# Altium footprint library Connector_FFC-FPC.PcbLib: 372 footprints (part 3 of 24)
Each footprint in its own frame and in the unit in brackets; x right, y up, seen from the top. Pads: shape width x height; smd on the part's side, far side on the other; paste and mask are expansions set on the pad; w line width, h text height; cw(c..) or ccw(c..) is an arc to the next point about the centre after c.
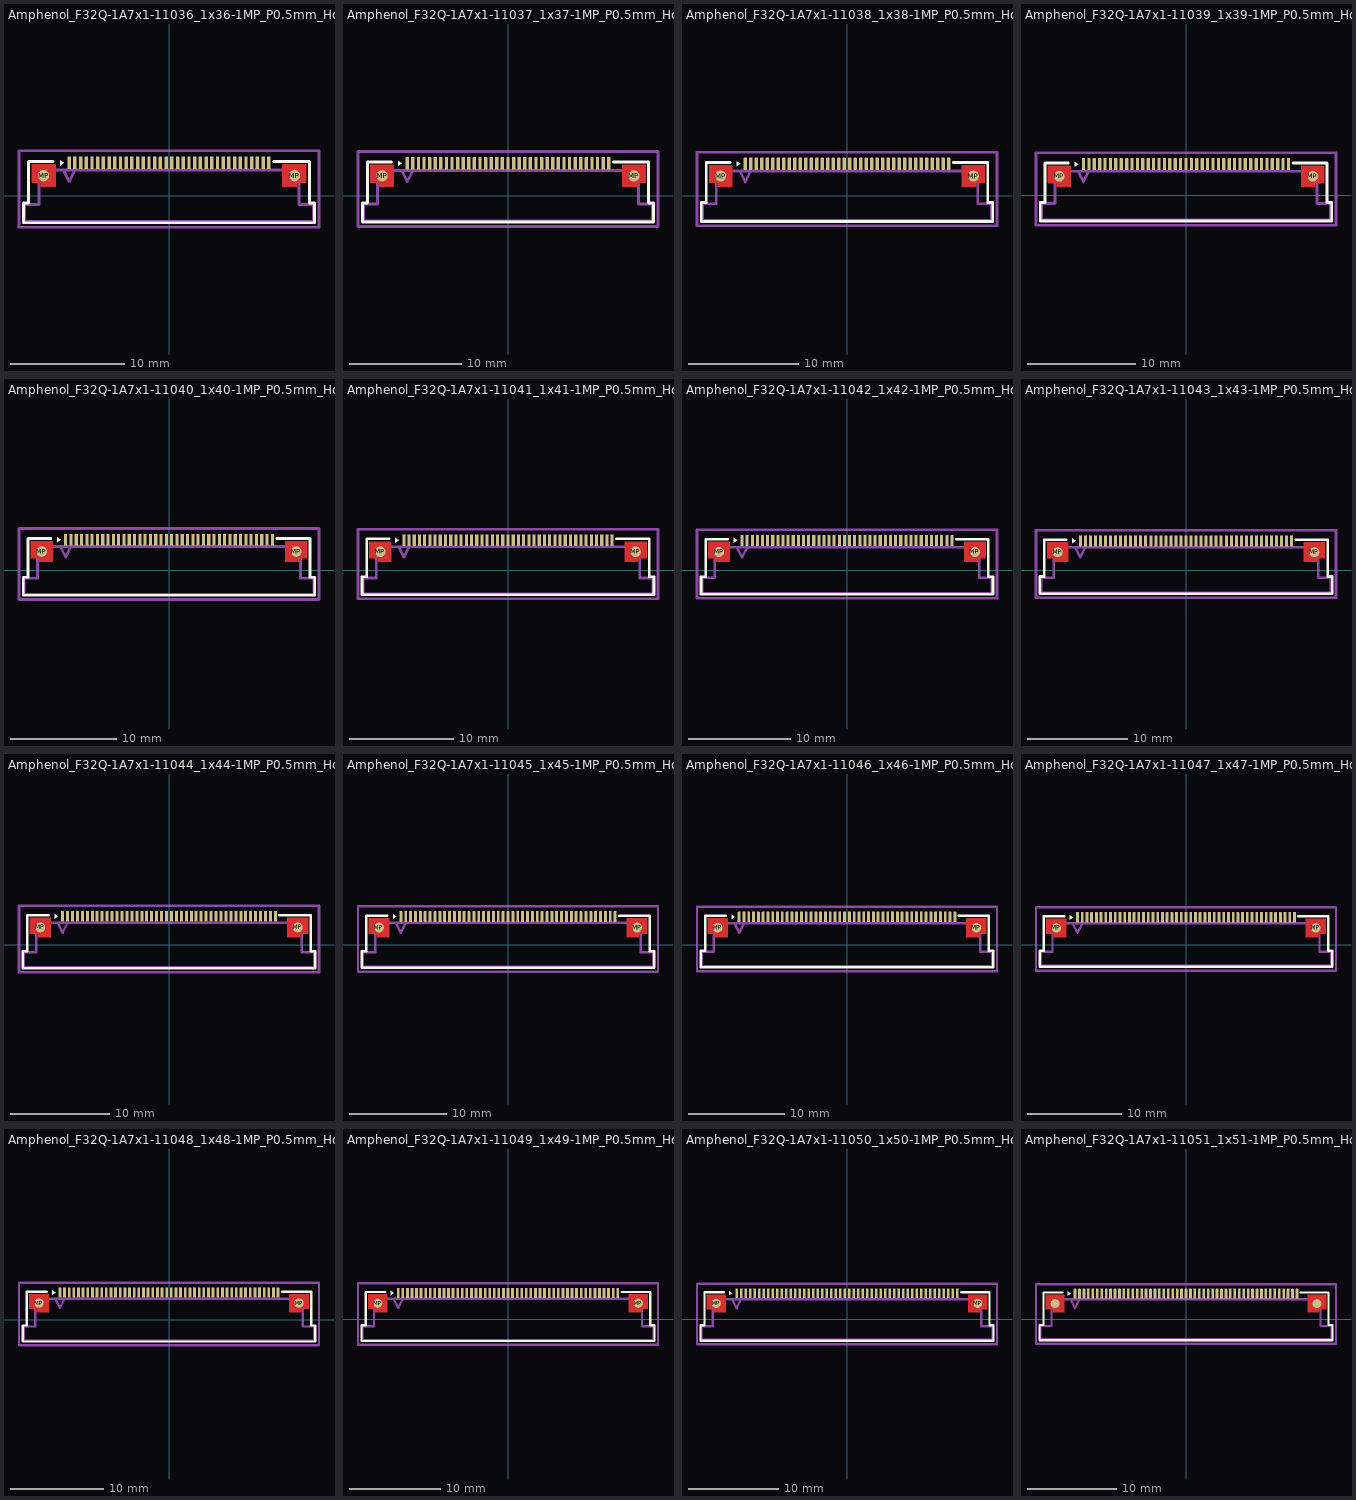
[diagram p2: the footprints below, top view; thin cyan lines are the x and y axes]

## Amphenol_F32Q-1A7x1-11036_1x36-1MP_P0.5mm_Horizontal [mm]
pads (38):
  rrect25% 0.3x1.1 smd: 1(-8.75,2.9) 2(-8.25,2.9) 3(-7.75,2.9) 4(-7.25,2.9) 5(-6.75,2.9) 6(-6.25,2.9) 7(-5.75,2.9) 8(-5.25,2.9) 9(-4.75,2.9) 10(-4.25,2.9) 11(-3.75,2.9) 12(-3.25,2.9) 13(-2.75,2.9) 14(-2.25,2.9) 15(-1.75,2.9) 16(-1.25,2.9) 17(-0.75,2.9) 18(-0.25,2.9) 19(0.25,2.9) 20(0.75,2.9) 21(1.25,2.9) 22(1.75,2.9) 23(2.25,2.9) 24(2.75,2.9) 25(3.25,2.9) 26(3.75,2.9) 27(4.25,2.9) 28(4.75,2.9) 29(5.25,2.9) 30(5.75,2.9) 31(6.25,2.9) 32(6.75,2.9) 33(7.25,2.9) 34(7.75,2.9) 35(8.25,2.9) 36(8.75,2.9)
  round 1 smd: MP(-11,1.775) MP(11,1.775)
F.Cu:
  region: 12.05,1.15 11.25,1.15 11.25,0.8 9.95,0.8 9.95,2.75 12.05,2.75
  region: -9.95,0.8 -11.25,0.8 -11.25,1.15 -12.05,1.15 -12.05,2.75 -9.95,2.75
F.SilkS:
  region: -9.22,2.9 -9.55,2.66 -9.55,3.14
  lines w0.254: -10.16,3.01 -12.31,3.01 -12.31,-0.64 -12.76,-0.64 -12.76,-2.36 12.76,-2.36 12.76,-0.64 12.31,-0.64 12.31,3.01 9.16,3.01
F.Paste:
  region: 12.05,1.15 11.25,1.15 11.25,0.8 9.95,0.8 9.95,2.75 12.05,2.75
  region: -9.95,0.8 -11.25,0.8 -11.25,1.15 -12.05,1.15 -12.05,2.75 -9.95,2.75
F.Mask:
  region: 12.05,1.15 11.25,1.15 11.25,0.8 9.95,0.8 9.95,2.75 12.05,2.75
  region: -9.95,0.8 -11.25,0.8 -11.25,1.15 -12.05,1.15 -12.05,2.75 -9.95,2.75
Top Assembly:
  lines w0.254: -9.25,2.25 -8.75,1.25 -8.25,2.25 ; -12.65,-2.25 12.65,-2.25 12.65,-0.75 11.4,-0.75 11.4,2.25 -11.4,2.25 -11.4,-0.75 -12.65,-0.75 -12.65,-2.25
  text "'.Designator'" at -4.047,-0.84 h1
Top Courtyard:
  lines w0.254: -13.15,-2.75 13.15,-2.75 13.15,3.95 -13.15,3.95 -13.15,-2.75
Top Designator:
  text ".Designator" at -7.618,0.092 h1.52

## Amphenol_F32Q-1A7x1-11037_1x37-1MP_P0.5mm_Horizontal [mm]
pads (39):
  rrect25% 0.3x1.1 smd: 1(-9,2.9) 2(-8.5,2.9) 3(-8,2.9) 4(-7.5,2.9) 5(-7,2.9) 6(-6.5,2.9) 7(-6,2.9) 8(-5.5,2.9) 9(-5,2.9) 10(-4.5,2.9) 11(-4,2.9) 12(-3.5,2.9) 13(-3,2.9) 14(-2.5,2.9) 15(-2,2.9) 16(-1.5,2.9) 17(-1,2.9) 18(-0.5,2.9) 19(0,2.9) 20(0.5,2.9) 21(1,2.9) 22(1.5,2.9) 23(2,2.9) 24(2.5,2.9) 25(3,2.9) 26(3.5,2.9) 27(4,2.9) 28(4.5,2.9) 29(5,2.9) 30(5.5,2.9) 31(6,2.9) 32(6.5,2.9) 33(7,2.9) 34(7.5,2.9) 35(8,2.9) 36(8.5,2.9) 37(9,2.9)
  round 1 smd: MP(-11.25,1.775) MP(11.25,1.775)
F.Cu:
  region: 12.3,1.15 11.5,1.15 11.5,0.8 10.2,0.8 10.2,2.75 12.3,2.75
  region: -10.2,0.8 -11.5,0.8 -11.5,1.15 -12.3,1.15 -12.3,2.75 -10.2,2.75
F.SilkS:
  region: -9.47,2.9 -9.8,2.66 -9.8,3.14
  lines w0.254: -10.41,3.01 -12.56,3.01 -12.56,-0.64 -13.01,-0.64 -13.01,-2.36 13.01,-2.36 13.01,-0.64 12.56,-0.64 12.56,3.01 9.41,3.01
F.Paste:
  region: 12.3,1.15 11.5,1.15 11.5,0.8 10.2,0.8 10.2,2.75 12.3,2.75
  region: -10.2,0.8 -11.5,0.8 -11.5,1.15 -12.3,1.15 -12.3,2.75 -10.2,2.75
F.Mask:
  region: 12.3,1.15 11.5,1.15 11.5,0.8 10.2,0.8 10.2,2.75 12.3,2.75
  region: -10.2,0.8 -11.5,0.8 -11.5,1.15 -12.3,1.15 -12.3,2.75 -10.2,2.75
Top Assembly:
  lines w0.254: -9.5,2.25 -9,1.25 -8.5,2.25 ; -12.9,-2.25 12.9,-2.25 12.9,-0.75 11.65,-0.75 11.65,2.25 -11.65,2.25 -11.65,-0.75 -12.9,-0.75 -12.9,-2.25
  text "'.Designator'" at -4.047,-0.84 h1
Top Courtyard:
  lines w0.254: -13.4,-2.75 13.4,-2.75 13.4,3.95 -13.4,3.95 -13.4,-2.75
Top Designator:
  text ".Designator" at -7.618,0.092 h1.52

## Amphenol_F32Q-1A7x1-11038_1x38-1MP_P0.5mm_Horizontal [mm]
pads (40):
  rrect25% 0.3x1.1 smd: 1(-9.25,2.9) 2(-8.75,2.9) 3(-8.25,2.9) 4(-7.75,2.9) 5(-7.25,2.9) 6(-6.75,2.9) 7(-6.25,2.9) 8(-5.75,2.9) 9(-5.25,2.9) 10(-4.75,2.9) 11(-4.25,2.9) 12(-3.75,2.9) 13(-3.25,2.9) 14(-2.75,2.9) 15(-2.25,2.9) 16(-1.75,2.9) 17(-1.25,2.9) 18(-0.75,2.9) 19(-0.25,2.9) 20(0.25,2.9) 21(0.75,2.9) 22(1.25,2.9) 23(1.75,2.9) 24(2.25,2.9) 25(2.75,2.9) 26(3.25,2.9) 27(3.75,2.9) 28(4.25,2.9) 29(4.75,2.9) 30(5.25,2.9) 31(5.75,2.9) 32(6.25,2.9) 33(6.75,2.9) 34(7.25,2.9) 35(7.75,2.9) 36(8.25,2.9) 37(8.75,2.9) 38(9.25,2.9)
  round 1 smd: MP(-11.5,1.775) MP(11.5,1.775)
F.Cu:
  region: 12.55,1.15 11.75,1.15 11.75,0.8 10.45,0.8 10.45,2.75 12.55,2.75
  region: -10.45,0.8 -11.75,0.8 -11.75,1.15 -12.55,1.15 -12.55,2.75 -10.45,2.75
F.SilkS:
  region: -9.72,2.9 -10.05,2.66 -10.05,3.14
  lines w0.254: -10.66,3.01 -12.81,3.01 -12.81,-0.64 -13.26,-0.64 -13.26,-2.36 13.26,-2.36 13.26,-0.64 12.81,-0.64 12.81,3.01 9.66,3.01
F.Paste:
  region: 12.55,1.15 11.75,1.15 11.75,0.8 10.45,0.8 10.45,2.75 12.55,2.75
  region: -10.45,0.8 -11.75,0.8 -11.75,1.15 -12.55,1.15 -12.55,2.75 -10.45,2.75
F.Mask:
  region: 12.55,1.15 11.75,1.15 11.75,0.8 10.45,0.8 10.45,2.75 12.55,2.75
  region: -10.45,0.8 -11.75,0.8 -11.75,1.15 -12.55,1.15 -12.55,2.75 -10.45,2.75
Top Assembly:
  lines w0.254: -9.75,2.25 -9.25,1.25 -8.75,2.25 ; -13.15,-2.25 13.15,-2.25 13.15,-0.75 11.9,-0.75 11.9,2.25 -11.9,2.25 -11.9,-0.75 -13.15,-0.75 -13.15,-2.25
  text "'.Designator'" at -4.047,-0.84 h1
Top Courtyard:
  lines w0.254: -13.65,-2.75 13.65,-2.75 13.65,3.95 -13.65,3.95 -13.65,-2.75
Top Designator:
  text ".Designator" at -7.618,0.092 h1.52

## Amphenol_F32Q-1A7x1-11039_1x39-1MP_P0.5mm_Horizontal [mm]
pads (41):
  rrect25% 0.3x1.1 smd: 1(-9.5,2.9) 2(-9,2.9) 3(-8.5,2.9) 4(-8,2.9) 5(-7.5,2.9) 6(-7,2.9) 7(-6.5,2.9) 8(-6,2.9) 9(-5.5,2.9) 10(-5,2.9) 11(-4.5,2.9) 12(-4,2.9) 13(-3.5,2.9) 14(-3,2.9) 15(-2.5,2.9) 16(-2,2.9) 17(-1.5,2.9) 18(-1,2.9) 19(-0.5,2.9) 20(0,2.9) 21(0.5,2.9) 22(1,2.9) 23(1.5,2.9) 24(2,2.9) 25(2.5,2.9) 26(3,2.9) 27(3.5,2.9) 28(4,2.9) 29(4.5,2.9) 30(5,2.9) 31(5.5,2.9) 32(6,2.9) 33(6.5,2.9) 34(7,2.9) 35(7.5,2.9) 36(8,2.9) 37(8.5,2.9) 38(9,2.9) 39(9.5,2.9)
  round 1 smd: MP(-11.75,1.775) MP(11.75,1.775)
F.Cu:
  region: 12.8,1.15 12,1.15 12,0.8 10.7,0.8 10.7,2.75 12.8,2.75
  region: -10.7,0.8 -12,0.8 -12,1.15 -12.8,1.15 -12.8,2.75 -10.7,2.75
F.SilkS:
  region: -9.97,2.9 -10.3,2.66 -10.3,3.14
  lines w0.254: -10.91,3.01 -13.06,3.01 -13.06,-0.64 -13.51,-0.64 -13.51,-2.36 13.51,-2.36 13.51,-0.64 13.06,-0.64 13.06,3.01 9.91,3.01
F.Paste:
  region: 12.8,1.15 12,1.15 12,0.8 10.7,0.8 10.7,2.75 12.8,2.75
  region: -10.7,0.8 -12,0.8 -12,1.15 -12.8,1.15 -12.8,2.75 -10.7,2.75
F.Mask:
  region: 12.8,1.15 12,1.15 12,0.8 10.7,0.8 10.7,2.75 12.8,2.75
  region: -10.7,0.8 -12,0.8 -12,1.15 -12.8,1.15 -12.8,2.75 -10.7,2.75
Top Assembly:
  lines w0.254: -10,2.25 -9.5,1.25 -9,2.25 ; -13.4,-2.25 13.4,-2.25 13.4,-0.75 12.15,-0.75 12.15,2.25 -12.15,2.25 -12.15,-0.75 -13.4,-0.75 -13.4,-2.25
  text "'.Designator'" at -4.047,-0.84 h1
Top Courtyard:
  lines w0.254: -13.9,-2.75 13.9,-2.75 13.9,3.95 -13.9,3.95 -13.9,-2.75
Top Designator:
  text ".Designator" at -7.618,0.092 h1.52

## Amphenol_F32Q-1A7x1-11040_1x40-1MP_P0.5mm_Horizontal [mm]
pads (42):
  rrect25% 0.3x1.1 smd: 1(-9.75,2.9) 2(-9.25,2.9) 3(-8.75,2.9) 4(-8.25,2.9) 5(-7.75,2.9) 6(-7.25,2.9) 7(-6.75,2.9) 8(-6.25,2.9) 9(-5.75,2.9) 10(-5.25,2.9) 11(-4.75,2.9) 12(-4.25,2.9) 13(-3.75,2.9) 14(-3.25,2.9) 15(-2.75,2.9) 16(-2.25,2.9) 17(-1.75,2.9) 18(-1.25,2.9) 19(-0.75,2.9) 20(-0.25,2.9) 21(0.25,2.9) 22(0.75,2.9) 23(1.25,2.9) 24(1.75,2.9) 25(2.25,2.9) 26(2.75,2.9) 27(3.25,2.9) 28(3.75,2.9) 29(4.25,2.9) 30(4.75,2.9) 31(5.25,2.9) 32(5.75,2.9) 33(6.25,2.9) 34(6.75,2.9) 35(7.25,2.9) 36(7.75,2.9) 37(8.25,2.9) 38(8.75,2.9) 39(9.25,2.9) 40(9.75,2.9)
  round 1 smd: MP(-12,1.775) MP(12,1.775)
F.Cu:
  region: 13.05,1.15 12.25,1.15 12.25,0.8 10.95,0.8 10.95,2.75 13.05,2.75
  region: -10.95,0.8 -12.25,0.8 -12.25,1.15 -13.05,1.15 -13.05,2.75 -10.95,2.75
F.SilkS:
  region: -10.22,2.9 -10.55,2.66 -10.55,3.14
  lines w0.254: -11.16,3.01 -13.31,3.01 -13.31,-0.64 -13.76,-0.64 -13.76,-2.36 13.76,-2.36 13.76,-0.64 13.31,-0.64 13.31,3.01 10.16,3.01
F.Paste:
  region: 13.05,1.15 12.25,1.15 12.25,0.8 10.95,0.8 10.95,2.75 13.05,2.75
  region: -10.95,0.8 -12.25,0.8 -12.25,1.15 -13.05,1.15 -13.05,2.75 -10.95,2.75
F.Mask:
  region: 13.05,1.15 12.25,1.15 12.25,0.8 10.95,0.8 10.95,2.75 13.05,2.75
  region: -10.95,0.8 -12.25,0.8 -12.25,1.15 -13.05,1.15 -13.05,2.75 -10.95,2.75
Top Assembly:
  lines w0.254: -10.25,2.25 -9.75,1.25 -9.25,2.25 ; -13.65,-2.25 13.65,-2.25 13.65,-0.75 12.4,-0.75 12.4,2.25 -12.4,2.25 -12.4,-0.75 -13.65,-0.75 -13.65,-2.25
  text "'.Designator'" at -4.047,-0.84 h1
Top Courtyard:
  lines w0.254: -14.15,-2.75 14.15,-2.75 14.15,3.95 -14.15,3.95 -14.15,-2.75
Top Designator:
  text ".Designator" at -7.618,0.092 h1.52

## Amphenol_F32Q-1A7x1-11041_1x41-1MP_P0.5mm_Horizontal [mm]
pads (43):
  rrect25% 0.3x1.1 smd: 1(-10,2.9) 2(-9.5,2.9) 3(-9,2.9) 4(-8.5,2.9) 5(-8,2.9) 6(-7.5,2.9) 7(-7,2.9) 8(-6.5,2.9) 9(-6,2.9) 10(-5.5,2.9) 11(-5,2.9) 12(-4.5,2.9) 13(-4,2.9) 14(-3.5,2.9) 15(-3,2.9) 16(-2.5,2.9) 17(-2,2.9) 18(-1.5,2.9) 19(-1,2.9) 20(-0.5,2.9) 21(0,2.9) 22(0.5,2.9) 23(1,2.9) 24(1.5,2.9) 25(2,2.9) 26(2.5,2.9) 27(3,2.9) 28(3.5,2.9) 29(4,2.9) 30(4.5,2.9) 31(5,2.9) 32(5.5,2.9) 33(6,2.9) 34(6.5,2.9) 35(7,2.9) 36(7.5,2.9) 37(8,2.9) 38(8.5,2.9) 39(9,2.9) 40(9.5,2.9) 41(10,2.9)
  round 1 smd: MP(-12.25,1.775) MP(12.25,1.775)
F.Cu:
  region: 13.3,1.15 12.5,1.15 12.5,0.8 11.2,0.8 11.2,2.75 13.3,2.75
  region: -11.2,0.8 -12.5,0.8 -12.5,1.15 -13.3,1.15 -13.3,2.75 -11.2,2.75
F.SilkS:
  region: -10.47,2.9 -10.8,2.66 -10.8,3.14
  lines w0.254: -11.41,3.01 -13.56,3.01 -13.56,-0.64 -14.01,-0.64 -14.01,-2.36 14.01,-2.36 14.01,-0.64 13.56,-0.64 13.56,3.01 10.41,3.01
F.Paste:
  region: 13.3,1.15 12.5,1.15 12.5,0.8 11.2,0.8 11.2,2.75 13.3,2.75
  region: -11.2,0.8 -12.5,0.8 -12.5,1.15 -13.3,1.15 -13.3,2.75 -11.2,2.75
F.Mask:
  region: 13.3,1.15 12.5,1.15 12.5,0.8 11.2,0.8 11.2,2.75 13.3,2.75
  region: -11.2,0.8 -12.5,0.8 -12.5,1.15 -13.3,1.15 -13.3,2.75 -11.2,2.75
Top Assembly:
  lines w0.254: -10.5,2.25 -10,1.25 -9.5,2.25 ; -13.9,-2.25 13.9,-2.25 13.9,-0.75 12.65,-0.75 12.65,2.25 -12.65,2.25 -12.65,-0.75 -13.9,-0.75 -13.9,-2.25
  text "'.Designator'" at -4.047,-0.84 h1
Top Courtyard:
  lines w0.254: -14.4,-2.75 14.4,-2.75 14.4,3.95 -14.4,3.95 -14.4,-2.75
Top Designator:
  text ".Designator" at -7.618,0.092 h1.52

## Amphenol_F32Q-1A7x1-11042_1x42-1MP_P0.5mm_Horizontal [mm]
pads (44):
  rrect25% 0.3x1.1 smd: 1(-10.25,2.9) 2(-9.75,2.9) 3(-9.25,2.9) 4(-8.75,2.9) 5(-8.25,2.9) 6(-7.75,2.9) 7(-7.25,2.9) 8(-6.75,2.9) 9(-6.25,2.9) 10(-5.75,2.9) 11(-5.25,2.9) 12(-4.75,2.9) 13(-4.25,2.9) 14(-3.75,2.9) 15(-3.25,2.9) 16(-2.75,2.9) 17(-2.25,2.9) 18(-1.75,2.9) 19(-1.25,2.9) 20(-0.75,2.9) 21(-0.25,2.9) 22(0.25,2.9) 23(0.75,2.9) 24(1.25,2.9) 25(1.75,2.9) 26(2.25,2.9) 27(2.75,2.9) 28(3.25,2.9) 29(3.75,2.9) 30(4.25,2.9) 31(4.75,2.9) 32(5.25,2.9) 33(5.75,2.9) 34(6.25,2.9) 35(6.75,2.9) 36(7.25,2.9) 37(7.75,2.9) 38(8.25,2.9) 39(8.75,2.9) 40(9.25,2.9) 41(9.75,2.9) 42(10.25,2.9)
  round 1 smd: MP(-12.5,1.775) MP(12.5,1.775)
F.Cu:
  region: 13.55,1.15 12.75,1.15 12.75,0.8 11.45,0.8 11.45,2.75 13.55,2.75
  region: -11.45,0.8 -12.75,0.8 -12.75,1.15 -13.55,1.15 -13.55,2.75 -11.45,2.75
F.SilkS:
  region: -10.72,2.9 -11.05,2.66 -11.05,3.14
  lines w0.254: -11.66,3.01 -13.81,3.01 -13.81,-0.64 -14.26,-0.64 -14.26,-2.36 14.26,-2.36 14.26,-0.64 13.81,-0.64 13.81,3.01 10.66,3.01
F.Paste:
  region: 13.55,1.15 12.75,1.15 12.75,0.8 11.45,0.8 11.45,2.75 13.55,2.75
  region: -11.45,0.8 -12.75,0.8 -12.75,1.15 -13.55,1.15 -13.55,2.75 -11.45,2.75
F.Mask:
  region: 13.55,1.15 12.75,1.15 12.75,0.8 11.45,0.8 11.45,2.75 13.55,2.75
  region: -11.45,0.8 -12.75,0.8 -12.75,1.15 -13.55,1.15 -13.55,2.75 -11.45,2.75
Top Assembly:
  lines w0.254: -10.75,2.25 -10.25,1.25 -9.75,2.25 ; -14.15,-2.25 14.15,-2.25 14.15,-0.75 12.9,-0.75 12.9,2.25 -12.9,2.25 -12.9,-0.75 -14.15,-0.75 -14.15,-2.25
  text "'.Designator'" at -4.047,-0.84 h1
Top Courtyard:
  lines w0.254: -14.65,-2.75 14.65,-2.75 14.65,3.95 -14.65,3.95 -14.65,-2.75
Top Designator:
  text ".Designator" at -7.618,0.092 h1.52

## Amphenol_F32Q-1A7x1-11043_1x43-1MP_P0.5mm_Horizontal [mm]
pads (45):
  rrect25% 0.3x1.1 smd: 1(-10.5,2.9) 2(-10,2.9) 3(-9.5,2.9) 4(-9,2.9) 5(-8.5,2.9) 6(-8,2.9) 7(-7.5,2.9) 8(-7,2.9) 9(-6.5,2.9) 10(-6,2.9) 11(-5.5,2.9) 12(-5,2.9) 13(-4.5,2.9) 14(-4,2.9) 15(-3.5,2.9) 16(-3,2.9) 17(-2.5,2.9) 18(-2,2.9) 19(-1.5,2.9) 20(-1,2.9) 21(-0.5,2.9) 22(0,2.9) 23(0.5,2.9) 24(1,2.9) 25(1.5,2.9) 26(2,2.9) 27(2.5,2.9) 28(3,2.9) 29(3.5,2.9) 30(4,2.9) 31(4.5,2.9) 32(5,2.9) 33(5.5,2.9) 34(6,2.9) 35(6.5,2.9) 36(7,2.9) 37(7.5,2.9) 38(8,2.9) 39(8.5,2.9) 40(9,2.9) 41(9.5,2.9) 42(10,2.9) 43(10.5,2.9)
  round 1 smd: MP(-12.75,1.775) MP(12.75,1.775)
F.Cu:
  region: 13.8,1.15 13,1.15 13,0.8 11.7,0.8 11.7,2.75 13.8,2.75
  region: -11.7,0.8 -13,0.8 -13,1.15 -13.8,1.15 -13.8,2.75 -11.7,2.75
F.SilkS:
  region: -10.97,2.9 -11.3,2.66 -11.3,3.14
  lines w0.254: -11.91,3.01 -14.06,3.01 -14.06,-0.64 -14.51,-0.64 -14.51,-2.36 14.51,-2.36 14.51,-0.64 14.06,-0.64 14.06,3.01 10.91,3.01
F.Paste:
  region: 13.8,1.15 13,1.15 13,0.8 11.7,0.8 11.7,2.75 13.8,2.75
  region: -11.7,0.8 -13,0.8 -13,1.15 -13.8,1.15 -13.8,2.75 -11.7,2.75
F.Mask:
  region: 13.8,1.15 13,1.15 13,0.8 11.7,0.8 11.7,2.75 13.8,2.75
  region: -11.7,0.8 -13,0.8 -13,1.15 -13.8,1.15 -13.8,2.75 -11.7,2.75
Top Assembly:
  lines w0.254: -11,2.25 -10.5,1.25 -10,2.25 ; -14.4,-2.25 14.4,-2.25 14.4,-0.75 13.15,-0.75 13.15,2.25 -13.15,2.25 -13.15,-0.75 -14.4,-0.75 -14.4,-2.25
  text "'.Designator'" at -4.047,-0.84 h1
Top Courtyard:
  lines w0.254: -14.9,-2.75 14.9,-2.75 14.9,3.95 -14.9,3.95 -14.9,-2.75
Top Designator:
  text ".Designator" at -7.618,0.092 h1.52

## Amphenol_F32Q-1A7x1-11044_1x44-1MP_P0.5mm_Horizontal [mm]
pads (46):
  rrect25% 0.3x1.1 smd: 1(-10.75,2.9) 2(-10.25,2.9) 3(-9.75,2.9) 4(-9.25,2.9) 5(-8.75,2.9) 6(-8.25,2.9) 7(-7.75,2.9) 8(-7.25,2.9) 9(-6.75,2.9) 10(-6.25,2.9) 11(-5.75,2.9) 12(-5.25,2.9) 13(-4.75,2.9) 14(-4.25,2.9) 15(-3.75,2.9) 16(-3.25,2.9) 17(-2.75,2.9) 18(-2.25,2.9) 19(-1.75,2.9) 20(-1.25,2.9) 21(-0.75,2.9) 22(-0.25,2.9) 23(0.25,2.9) 24(0.75,2.9) 25(1.25,2.9) 26(1.75,2.9) 27(2.25,2.9) 28(2.75,2.9) 29(3.25,2.9) 30(3.75,2.9) 31(4.25,2.9) 32(4.75,2.9) 33(5.25,2.9) 34(5.75,2.9) 35(6.25,2.9) 36(6.75,2.9) 37(7.25,2.9) 38(7.75,2.9) 39(8.25,2.9) 40(8.75,2.9) 41(9.25,2.9) 42(9.75,2.9) 43(10.25,2.9) 44(10.75,2.9)
  round 1 smd: MP(-13,1.775) MP(13,1.775)
F.Cu:
  region: 14.05,1.15 13.25,1.15 13.25,0.8 11.95,0.8 11.95,2.75 14.05,2.75
  region: -11.95,0.8 -13.25,0.8 -13.25,1.15 -14.05,1.15 -14.05,2.75 -11.95,2.75
F.SilkS:
  region: -11.22,2.9 -11.55,2.66 -11.55,3.14
  lines w0.254: -12.16,3.01 -14.31,3.01 -14.31,-0.64 -14.76,-0.64 -14.76,-2.36 14.76,-2.36 14.76,-0.64 14.31,-0.64 14.31,3.01 11.16,3.01
F.Paste:
  region: 14.05,1.15 13.25,1.15 13.25,0.8 11.95,0.8 11.95,2.75 14.05,2.75
  region: -11.95,0.8 -13.25,0.8 -13.25,1.15 -14.05,1.15 -14.05,2.75 -11.95,2.75
F.Mask:
  region: 14.05,1.15 13.25,1.15 13.25,0.8 11.95,0.8 11.95,2.75 14.05,2.75
  region: -11.95,0.8 -13.25,0.8 -13.25,1.15 -14.05,1.15 -14.05,2.75 -11.95,2.75
Top Assembly:
  lines w0.254: -11.25,2.25 -10.75,1.25 -10.25,2.25 ; -14.65,-2.25 14.65,-2.25 14.65,-0.75 13.4,-0.75 13.4,2.25 -13.4,2.25 -13.4,-0.75 -14.65,-0.75 -14.65,-2.25
  text "'.Designator'" at -4.047,-0.84 h1
Top Courtyard:
  lines w0.254: -15.15,-2.75 15.15,-2.75 15.15,3.95 -15.15,3.95 -15.15,-2.75
Top Designator:
  text ".Designator" at -7.618,0.092 h1.52

## Amphenol_F32Q-1A7x1-11045_1x45-1MP_P0.5mm_Horizontal [mm]
pads (47):
  rrect25% 0.3x1.1 smd: 1(-11,2.9) 2(-10.5,2.9) 3(-10,2.9) 4(-9.5,2.9) 5(-9,2.9) 6(-8.5,2.9) 7(-8,2.9) 8(-7.5,2.9) 9(-7,2.9) 10(-6.5,2.9) 11(-6,2.9) 12(-5.5,2.9) 13(-5,2.9) 14(-4.5,2.9) 15(-4,2.9) 16(-3.5,2.9) 17(-3,2.9) 18(-2.5,2.9) 19(-2,2.9) 20(-1.5,2.9) 21(-1,2.9) 22(-0.5,2.9) 23(0,2.9) 24(0.5,2.9) 25(1,2.9) 26(1.5,2.9) 27(2,2.9) 28(2.5,2.9) 29(3,2.9) 30(3.5,2.9) 31(4,2.9) 32(4.5,2.9) 33(5,2.9) 34(5.5,2.9) 35(6,2.9) 36(6.5,2.9) 37(7,2.9) 38(7.5,2.9) 39(8,2.9) 40(8.5,2.9) 41(9,2.9) 42(9.5,2.9) 43(10,2.9) 44(10.5,2.9) 45(11,2.9)
  round 1 smd: MP(-13.25,1.775) MP(13.25,1.775)
F.Cu:
  region: 14.3,1.15 13.5,1.15 13.5,0.8 12.2,0.8 12.2,2.75 14.3,2.75
  region: -12.2,0.8 -13.5,0.8 -13.5,1.15 -14.3,1.15 -14.3,2.75 -12.2,2.75
F.SilkS:
  region: -11.47,2.9 -11.8,2.66 -11.8,3.14
  lines w0.254: -12.41,3.01 -14.56,3.01 -14.56,-0.64 -15.01,-0.64 -15.01,-2.36 15.01,-2.36 15.01,-0.64 14.56,-0.64 14.56,3.01 11.41,3.01
F.Paste:
  region: 14.3,1.15 13.5,1.15 13.5,0.8 12.2,0.8 12.2,2.75 14.3,2.75
  region: -12.2,0.8 -13.5,0.8 -13.5,1.15 -14.3,1.15 -14.3,2.75 -12.2,2.75
F.Mask:
  region: 14.3,1.15 13.5,1.15 13.5,0.8 12.2,0.8 12.2,2.75 14.3,2.75
  region: -12.2,0.8 -13.5,0.8 -13.5,1.15 -14.3,1.15 -14.3,2.75 -12.2,2.75
Top Assembly:
  lines w0.254: -11.5,2.25 -11,1.25 -10.5,2.25 ; -14.9,-2.25 14.9,-2.25 14.9,-0.75 13.65,-0.75 13.65,2.25 -13.65,2.25 -13.65,-0.75 -14.9,-0.75 -14.9,-2.25
  text "'.Designator'" at -4.047,-0.84 h1
Top Courtyard:
  lines w0.254: -15.4,-2.75 15.4,-2.75 15.4,3.95 -15.4,3.95 -15.4,-2.75
Top Designator:
  text ".Designator" at -7.618,0.092 h1.52

## Amphenol_F32Q-1A7x1-11046_1x46-1MP_P0.5mm_Horizontal [mm]
pads (48):
  rrect25% 0.3x1.1 smd: 1(-11.25,2.9) 2(-10.75,2.9) 3(-10.25,2.9) 4(-9.75,2.9) 5(-9.25,2.9) 6(-8.75,2.9) 7(-8.25,2.9) 8(-7.75,2.9) 9(-7.25,2.9) 10(-6.75,2.9) 11(-6.25,2.9) 12(-5.75,2.9) 13(-5.25,2.9) 14(-4.75,2.9) 15(-4.25,2.9) 16(-3.75,2.9) 17(-3.25,2.9) 18(-2.75,2.9) 19(-2.25,2.9) 20(-1.75,2.9) 21(-1.25,2.9) 22(-0.75,2.9) 23(-0.25,2.9) 24(0.25,2.9) 25(0.75,2.9) 26(1.25,2.9) 27(1.75,2.9) 28(2.25,2.9) 29(2.75,2.9) 30(3.25,2.9) 31(3.75,2.9) 32(4.25,2.9) 33(4.75,2.9) 34(5.25,2.9) 35(5.75,2.9) 36(6.25,2.9) 37(6.75,2.9) 38(7.25,2.9) 39(7.75,2.9) 40(8.25,2.9) 41(8.75,2.9) 42(9.25,2.9) 43(9.75,2.9) 44(10.25,2.9) 45(10.75,2.9) 46(11.25,2.9)
  round 1 smd: MP(-13.5,1.775) MP(13.5,1.775)
F.Cu:
  region: 14.55,1.15 13.75,1.15 13.75,0.8 12.45,0.8 12.45,2.75 14.55,2.75
  region: -12.45,0.8 -13.75,0.8 -13.75,1.15 -14.55,1.15 -14.55,2.75 -12.45,2.75
F.SilkS:
  region: -11.72,2.9 -12.05,2.66 -12.05,3.14
  lines w0.254: -12.66,3.01 -14.81,3.01 -14.81,-0.64 -15.26,-0.64 -15.26,-2.36 15.26,-2.36 15.26,-0.64 14.81,-0.64 14.81,3.01 11.66,3.01
F.Paste:
  region: 14.55,1.15 13.75,1.15 13.75,0.8 12.45,0.8 12.45,2.75 14.55,2.75
  region: -12.45,0.8 -13.75,0.8 -13.75,1.15 -14.55,1.15 -14.55,2.75 -12.45,2.75
F.Mask:
  region: 14.55,1.15 13.75,1.15 13.75,0.8 12.45,0.8 12.45,2.75 14.55,2.75
  region: -12.45,0.8 -13.75,0.8 -13.75,1.15 -14.55,1.15 -14.55,2.75 -12.45,2.75
Top Assembly:
  lines w0.254: -11.75,2.25 -11.25,1.25 -10.75,2.25 ; -15.15,-2.25 15.15,-2.25 15.15,-0.75 13.9,-0.75 13.9,2.25 -13.9,2.25 -13.9,-0.75 -15.15,-0.75 -15.15,-2.25
  text "'.Designator'" at -4.047,-0.84 h1
Top Courtyard:
  lines w0.254: -15.65,-2.75 15.65,-2.75 15.65,3.95 -15.65,3.95 -15.65,-2.75
Top Designator:
  text ".Designator" at -7.618,0.092 h1.52

## Amphenol_F32Q-1A7x1-11047_1x47-1MP_P0.5mm_Horizontal [mm]
pads (49):
  rrect25% 0.3x1.1 smd: 1(-11.5,2.9) 2(-11,2.9) 3(-10.5,2.9) 4(-10,2.9) 5(-9.5,2.9) 6(-9,2.9) 7(-8.5,2.9) 8(-8,2.9) 9(-7.5,2.9) 10(-7,2.9) 11(-6.5,2.9) 12(-6,2.9) 13(-5.5,2.9) 14(-5,2.9) 15(-4.5,2.9) 16(-4,2.9) 17(-3.5,2.9) 18(-3,2.9) 19(-2.5,2.9) 20(-2,2.9) 21(-1.5,2.9) 22(-1,2.9) 23(-0.5,2.9) 24(0,2.9) 25(0.5,2.9) 26(1,2.9) 27(1.5,2.9) 28(2,2.9) 29(2.5,2.9) 30(3,2.9) 31(3.5,2.9) 32(4,2.9) 33(4.5,2.9) 34(5,2.9) 35(5.5,2.9) 36(6,2.9) 37(6.5,2.9) 38(7,2.9) 39(7.5,2.9) 40(8,2.9) 41(8.5,2.9) 42(9,2.9) 43(9.5,2.9) 44(10,2.9) 45(10.5,2.9) 46(11,2.9) 47(11.5,2.9)
  round 1 smd: MP(-13.75,1.775) MP(13.75,1.775)
F.Cu:
  region: 14.8,1.15 14,1.15 14,0.8 12.7,0.8 12.7,2.75 14.8,2.75
  region: -12.7,0.8 -14,0.8 -14,1.15 -14.8,1.15 -14.8,2.75 -12.7,2.75
F.SilkS:
  region: -11.97,2.9 -12.3,2.66 -12.3,3.14
  lines w0.254: -12.91,3.01 -15.06,3.01 -15.06,-0.64 -15.51,-0.64 -15.51,-2.36 15.51,-2.36 15.51,-0.64 15.06,-0.64 15.06,3.01 11.91,3.01
F.Paste:
  region: 14.8,1.15 14,1.15 14,0.8 12.7,0.8 12.7,2.75 14.8,2.75
  region: -12.7,0.8 -14,0.8 -14,1.15 -14.8,1.15 -14.8,2.75 -12.7,2.75
F.Mask:
  region: 14.8,1.15 14,1.15 14,0.8 12.7,0.8 12.7,2.75 14.8,2.75
  region: -12.7,0.8 -14,0.8 -14,1.15 -14.8,1.15 -14.8,2.75 -12.7,2.75
Top Assembly:
  lines w0.254: -12,2.25 -11.5,1.25 -11,2.25 ; -15.4,-2.25 15.4,-2.25 15.4,-0.75 14.15,-0.75 14.15,2.25 -14.15,2.25 -14.15,-0.75 -15.4,-0.75 -15.4,-2.25
  text "'.Designator'" at -4.047,-0.84 h1
Top Courtyard:
  lines w0.254: -15.9,-2.75 15.9,-2.75 15.9,3.95 -15.9,3.95 -15.9,-2.75
Top Designator:
  text ".Designator" at -7.618,0.092 h1.52

## Amphenol_F32Q-1A7x1-11048_1x48-1MP_P0.5mm_Horizontal [mm]
pads (50):
  rrect25% 0.3x1.1 smd: 1(-11.75,2.9) 2(-11.25,2.9) 3(-10.75,2.9) 4(-10.25,2.9) 5(-9.75,2.9) 6(-9.25,2.9) 7(-8.75,2.9) 8(-8.25,2.9) 9(-7.75,2.9) 10(-7.25,2.9) 11(-6.75,2.9) 12(-6.25,2.9) 13(-5.75,2.9) 14(-5.25,2.9) 15(-4.75,2.9) 16(-4.25,2.9) 17(-3.75,2.9) 18(-3.25,2.9) 19(-2.75,2.9) 20(-2.25,2.9) 21(-1.75,2.9) 22(-1.25,2.9) 23(-0.75,2.9) 24(-0.25,2.9) 25(0.25,2.9) 26(0.75,2.9) 27(1.25,2.9) 28(1.75,2.9) 29(2.25,2.9) 30(2.75,2.9) 31(3.25,2.9) 32(3.75,2.9) 33(4.25,2.9) 34(4.75,2.9) 35(5.25,2.9) 36(5.75,2.9) 37(6.25,2.9) 38(6.75,2.9) 39(7.25,2.9) 40(7.75,2.9) 41(8.25,2.9) 42(8.75,2.9) 43(9.25,2.9) 44(9.75,2.9) 45(10.25,2.9) 46(10.75,2.9) 47(11.25,2.9) 48(11.75,2.9)
  round 1 smd: MP(-14,1.775) MP(14,1.775)
F.Cu:
  region: 15.05,1.15 14.25,1.15 14.25,0.8 12.95,0.8 12.95,2.75 15.05,2.75
  region: -12.95,0.8 -14.25,0.8 -14.25,1.15 -15.05,1.15 -15.05,2.75 -12.95,2.75
F.SilkS:
  region: -12.22,2.9 -12.55,2.66 -12.55,3.14
  lines w0.254: -13.16,3.01 -15.31,3.01 -15.31,-0.64 -15.76,-0.64 -15.76,-2.36 15.76,-2.36 15.76,-0.64 15.31,-0.64 15.31,3.01 12.16,3.01
F.Paste:
  region: 15.05,1.15 14.25,1.15 14.25,0.8 12.95,0.8 12.95,2.75 15.05,2.75
  region: -12.95,0.8 -14.25,0.8 -14.25,1.15 -15.05,1.15 -15.05,2.75 -12.95,2.75
F.Mask:
  region: 15.05,1.15 14.25,1.15 14.25,0.8 12.95,0.8 12.95,2.75 15.05,2.75
  region: -12.95,0.8 -14.25,0.8 -14.25,1.15 -15.05,1.15 -15.05,2.75 -12.95,2.75
Top Assembly:
  lines w0.254: -12.25,2.25 -11.75,1.25 -11.25,2.25 ; -15.65,-2.25 15.65,-2.25 15.65,-0.75 14.4,-0.75 14.4,2.25 -14.4,2.25 -14.4,-0.75 -15.65,-0.75 -15.65,-2.25
  text "'.Designator'" at -4.047,-0.84 h1
Top Courtyard:
  lines w0.254: -16.15,-2.75 16.15,-2.75 16.15,3.95 -16.15,3.95 -16.15,-2.75
Top Designator:
  text ".Designator" at -7.618,0.092 h1.52

## Amphenol_F32Q-1A7x1-11049_1x49-1MP_P0.5mm_Horizontal [mm]
pads (51):
  rrect25% 0.3x1.1 smd: 1(-12,2.9) 2(-11.5,2.9) 3(-11,2.9) 4(-10.5,2.9) 5(-10,2.9) 6(-9.5,2.9) 7(-9,2.9) 8(-8.5,2.9) 9(-8,2.9) 10(-7.5,2.9) 11(-7,2.9) 12(-6.5,2.9) 13(-6,2.9) 14(-5.5,2.9) 15(-5,2.9) 16(-4.5,2.9) 17(-4,2.9) 18(-3.5,2.9) 19(-3,2.9) 20(-2.5,2.9) 21(-2,2.9) 22(-1.5,2.9) 23(-1,2.9) 24(-0.5,2.9) 25(0,2.9) 26(0.5,2.9) 27(1,2.9) 28(1.5,2.9) 29(2,2.9) 30(2.5,2.9) 31(3,2.9) 32(3.5,2.9) 33(4,2.9) 34(4.5,2.9) 35(5,2.9) 36(5.5,2.9) 37(6,2.9) 38(6.5,2.9) 39(7,2.9) 40(7.5,2.9) 41(8,2.9) 42(8.5,2.9) 43(9,2.9) 44(9.5,2.9) 45(10,2.9) 46(10.5,2.9) 47(11,2.9) 48(11.5,2.9) 49(12,2.9)
  round 1 smd: MP(-14.25,1.775) MP(14.25,1.775)
F.Cu:
  region: 15.3,1.15 14.5,1.15 14.5,0.8 13.2,0.8 13.2,2.75 15.3,2.75
  region: -13.2,0.8 -14.5,0.8 -14.5,1.15 -15.3,1.15 -15.3,2.75 -13.2,2.75
F.SilkS:
  region: -12.47,2.9 -12.8,2.66 -12.8,3.14
  lines w0.254: -13.41,3.01 -15.56,3.01 -15.56,-0.64 -16.01,-0.64 -16.01,-2.36 16.01,-2.36 16.01,-0.64 15.56,-0.64 15.56,3.01 12.41,3.01
F.Paste:
  region: 15.3,1.15 14.5,1.15 14.5,0.8 13.2,0.8 13.2,2.75 15.3,2.75
  region: -13.2,0.8 -14.5,0.8 -14.5,1.15 -15.3,1.15 -15.3,2.75 -13.2,2.75
F.Mask:
  region: 15.3,1.15 14.5,1.15 14.5,0.8 13.2,0.8 13.2,2.75 15.3,2.75
  region: -13.2,0.8 -14.5,0.8 -14.5,1.15 -15.3,1.15 -15.3,2.75 -13.2,2.75
Top Assembly:
  lines w0.254: -12.5,2.25 -12,1.25 -11.5,2.25 ; -15.9,-2.25 15.9,-2.25 15.9,-0.75 14.65,-0.75 14.65,2.25 -14.65,2.25 -14.65,-0.75 -15.9,-0.75 -15.9,-2.25
  text "'.Designator'" at -4.047,-0.84 h1
Top Courtyard:
  lines w0.254: -16.4,-2.75 16.4,-2.75 16.4,3.95 -16.4,3.95 -16.4,-2.75
Top Designator:
  text ".Designator" at -7.618,0.092 h1.52

## Amphenol_F32Q-1A7x1-11050_1x50-1MP_P0.5mm_Horizontal [mm]
pads (52):
  rrect25% 0.3x1.1 smd: 1(-12.25,2.9) 2(-11.75,2.9) 3(-11.25,2.9) 4(-10.75,2.9) 5(-10.25,2.9) 6(-9.75,2.9) 7(-9.25,2.9) 8(-8.75,2.9) 9(-8.25,2.9) 10(-7.75,2.9) 11(-7.25,2.9) 12(-6.75,2.9) 13(-6.25,2.9) 14(-5.75,2.9) 15(-5.25,2.9) 16(-4.75,2.9) 17(-4.25,2.9) 18(-3.75,2.9) 19(-3.25,2.9) 20(-2.75,2.9) 21(-2.25,2.9) 22(-1.75,2.9) 23(-1.25,2.9) 24(-0.75,2.9) 25(-0.25,2.9) 26(0.25,2.9) 27(0.75,2.9) 28(1.25,2.9) 29(1.75,2.9) 30(2.25,2.9) 31(2.75,2.9) 32(3.25,2.9) 33(3.75,2.9) 34(4.25,2.9) 35(4.75,2.9) 36(5.25,2.9) 37(5.75,2.9) 38(6.25,2.9) 39(6.75,2.9) 40(7.25,2.9) 41(7.75,2.9) 42(8.25,2.9) 43(8.75,2.9) 44(9.25,2.9) 45(9.75,2.9) 46(10.25,2.9) 47(10.75,2.9) 48(11.25,2.9) 49(11.75,2.9) 50(12.25,2.9)
  round 1 smd: MP(-14.5,1.775) MP(14.5,1.775)
F.Cu:
  region: 15.55,1.15 14.75,1.15 14.75,0.8 13.45,0.8 13.45,2.75 15.55,2.75
  region: -13.45,0.8 -14.75,0.8 -14.75,1.15 -15.55,1.15 -15.55,2.75 -13.45,2.75
F.SilkS:
  region: -12.72,2.9 -13.05,2.66 -13.05,3.14
  lines w0.254: -13.66,3.01 -15.81,3.01 -15.81,-0.64 -16.26,-0.64 -16.26,-2.36 16.26,-2.36 16.26,-0.64 15.81,-0.64 15.81,3.01 12.66,3.01
F.Paste:
  region: 15.55,1.15 14.75,1.15 14.75,0.8 13.45,0.8 13.45,2.75 15.55,2.75
  region: -13.45,0.8 -14.75,0.8 -14.75,1.15 -15.55,1.15 -15.55,2.75 -13.45,2.75
F.Mask:
  region: 15.55,1.15 14.75,1.15 14.75,0.8 13.45,0.8 13.45,2.75 15.55,2.75
  region: -13.45,0.8 -14.75,0.8 -14.75,1.15 -15.55,1.15 -15.55,2.75 -13.45,2.75
Top Assembly:
  lines w0.254: -12.75,2.25 -12.25,1.25 -11.75,2.25 ; -16.15,-2.25 16.15,-2.25 16.15,-0.75 14.9,-0.75 14.9,2.25 -14.9,2.25 -14.9,-0.75 -16.15,-0.75 -16.15,-2.25
  text "'.Designator'" at -4.047,-0.84 h1
Top Courtyard:
  lines w0.254: -16.65,-2.75 16.65,-2.75 16.65,3.95 -16.65,3.95 -16.65,-2.75
Top Designator:
  text ".Designator" at -7.618,0.092 h1.52

## Amphenol_F32Q-1A7x1-11051_1x51-1MP_P0.5mm_Horizontal [mm]
pads (53):
  rrect25% 0.3x1.1 smd: 1(-12.5,2.9) 2(-12,2.9) 3(-11.5,2.9) 4(-11,2.9) 5(-10.5,2.9) 6(-10,2.9) 7(-9.5,2.9) 8(-9,2.9) 9(-8.5,2.9) 10(-8,2.9) 11(-7.5,2.9) 12(-7,2.9) 13(-6.5,2.9) 14(-6,2.9) 15(-5.5,2.9) 16(-5,2.9) 17(-4.5,2.9) 18(-4,2.9) 19(-3.5,2.9) 20(-3,2.9) 21(-2.5,2.9) 22(-2,2.9) 23(-1.5,2.9) 24(-1,2.9) 25(-0.5,2.9) 26(0,2.9) 27(0.5,2.9) 28(1,2.9) 29(1.5,2.9) 30(2,2.9) 31(2.5,2.9) 32(3,2.9) 33(3.5,2.9) 34(4,2.9) 35(4.5,2.9) 36(5,2.9) 37(5.5,2.9) 38(6,2.9) 39(6.5,2.9) 40(7,2.9) 41(7.5,2.9) 42(8,2.9) 43(8.5,2.9) 44(9,2.9) 45(9.5,2.9) 46(10,2.9) 47(10.5,2.9) 48(11,2.9) 49(11.5,2.9) 50(12,2.9) 51(12.5,2.9)
  round 1 smd: MP(-14.75,1.775) MP(14.75,1.775)
F.Cu:
  region: 15.8,1.15 15,1.15 15,0.8 13.7,0.8 13.7,2.75 15.8,2.75
  region: -13.7,0.8 -15,0.8 -15,1.15 -15.8,1.15 -15.8,2.75 -13.7,2.75
F.SilkS:
  region: -12.97,2.9 -13.3,2.66 -13.3,3.14
  lines w0.254: -13.91,3.01 -16.06,3.01 -16.06,-0.64 -16.51,-0.64 -16.51,-2.36 16.51,-2.36 16.51,-0.64 16.06,-0.64 16.06,3.01 12.91,3.01
F.Paste:
  region: 15.8,1.15 15,1.15 15,0.8 13.7,0.8 13.7,2.75 15.8,2.75
  region: -13.7,0.8 -15,0.8 -15,1.15 -15.8,1.15 -15.8,2.75 -13.7,2.75
F.Mask:
  region: 15.8,1.15 15,1.15 15,0.8 13.7,0.8 13.7,2.75 15.8,2.75
  region: -13.7,0.8 -15,0.8 -15,1.15 -15.8,1.15 -15.8,2.75 -13.7,2.75
Top Assembly:
  lines w0.254: -13,2.25 -12.5,1.25 -12,2.25 ; -16.4,-2.25 16.4,-2.25 16.4,-0.75 15.15,-0.75 15.15,2.25 -15.15,2.25 -15.15,-0.75 -16.4,-0.75 -16.4,-2.25
  text "'.Designator'" at -4.047,-0.84 h1
Top Courtyard:
  lines w0.254: -16.9,-2.75 16.9,-2.75 16.9,3.95 -16.9,3.95 -16.9,-2.75
Top Designator:
  text ".Designator" at -7.618,0.092 h1.52